# Altium footprint library SON9P40_160X120X43L20X18T130X30N.PcbLib: 1 footprints
Each footprint in its own frame and in the unit in brackets; x right, y up, seen from the top. Pads: shape width x height; smd on the part's side, far side on the other; paste and mask are expansions set on the pad; w line width, h text height; cw(c..) or ccw(c..) is an arc to the next point about the centre after c.
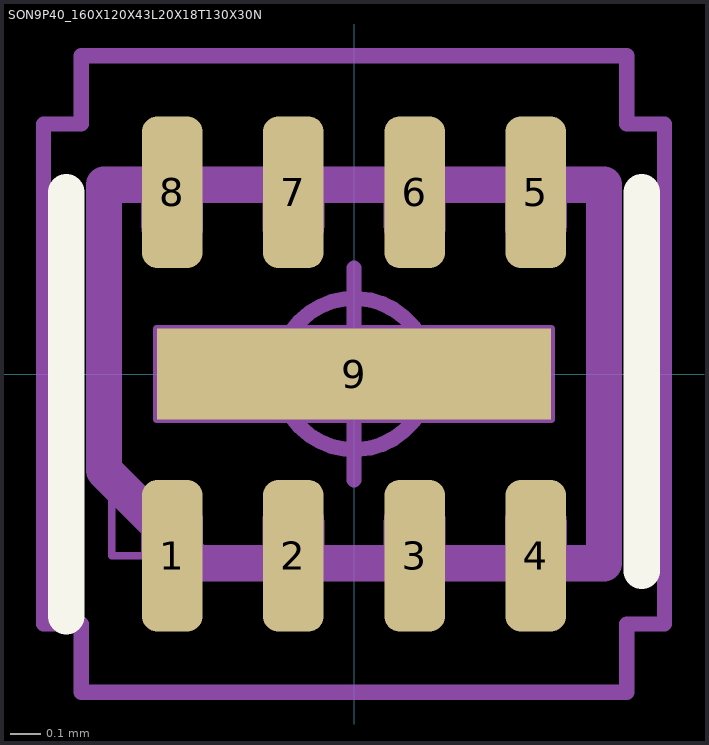
[diagram p0: the footprint, top view; thin cyan lines are the x and y axes]

## SON9P40_160X120X43L20X18T130X30N [mm] "Small Outline No-Lead (SON) with Thermal Tab, 0.40 mm pitch; 8 pin, 1.60 mm L X 1.20 mm W X 0.43 mm H Body"
height 0.43
pads (9):
  rrect50% 0.2x0.5 smd: 1(-0.6,-0.6) 2(-0.2,-0.6) 3(0.2,-0.6) 4(0.6,-0.6) 5(0.6,0.6) 6(0.2,0.6) 7(-0.2,0.6) 8(-0.6,0.6)
  rect 1.3x0.3 smd paste-0.044: 9(0,0)
Top Overlay:
  lines w0.12: -0.95,-0.8 -0.95,0.6 ; 0.95,-0.65 0.95,0.6
Mechanical 3:
  lines w0.12: -0.825,-0.318 -0.518,-0.625 0.825,-0.625 0.825,0.625 -0.825,0.625 -0.825,-0.318
Mechanical 5:
  lines w0.025: -0.8,-0.6 0.8,-0.6 0.8,0.6 -0.8,0.6 -0.8,-0.6 ; -0.69,-0.6 -0.51,-0.6 -0.51,-0.49 ccw(c-0.6,-0.49) -0.69,-0.49 -0.69,-0.6 ; -0.69,0.49 ccw(c-0.6,0.49) -0.51,0.49 -0.51,0.6 -0.69,0.6 -0.69,0.49 ; -0.65,-0.15 -0.65,0.15 0.65,0.15 0.65,-0.15 -0.65,-0.15 ; -0.29,-0.6 -0.11,-0.6 -0.11,-0.49 ccw(c-0.2,-0.49) -0.29,-0.49 -0.29,-0.6 ; -0.29,0.49 ccw(c-0.2,0.49) -0.11,0.49 -0.11,0.6 -0.29,0.6 -0.29,0.49 ; 0.11,-0.6 0.29,-0.6 0.29,-0.49 ccw(c0.2,-0.49) 0.11,-0.49 0.11,-0.6 ; 0.11,0.49 ccw(c0.2,0.49) 0.29,0.49 0.29,0.6 0.11,0.6 0.11,0.49 ; 0.51,-0.6 0.69,-0.6 0.69,-0.49 ccw(c0.6,-0.49) 0.51,-0.49 0.51,-0.6 ; 0.51,0.49 ccw(c0.6,0.49) 0.69,0.49 0.69,0.6 0.51,0.6 0.51,0.49
Mechanical 7:
  circle w0.05: c0,0 r0.25
  lines w0.05: -0.35,0 0.35,0 ; 0,-0.35 0,0.35 ; -1.025,-0.825 -0.9,-0.825 -0.9,-1.05 0.9,-1.05 0.9,-0.825 1.025,-0.825 1.025,0.825 0.9,0.825 0.9,1.05 -0.9,1.05 -0.9,0.825 -1.025,0.825 -1.025,-0.825
Mechanical 9:
  text "'.Designator'" at -5.563,-0.398 h1.02
3D body "SON9P40_160X120X43L20X18T130X30.STEP": height 0.43, standoff 0, extent -0.8,-0.65 0.8,0.65
3D body: height 0.43, standoff 0, extent -1.025,-1.05 1.025,1.05